# Altium footprint library DFN.PCBLIB: 1 footprints
Each footprint in its own frame and in the unit in brackets; x right, y up, seen from the top. Pads: shape width x height; smd on the part's side, far side on the other; paste and mask are expansions set on the pad; w line width, h text height; cw(c..) or ccw(c..) is an arc to the next point about the centre after c.
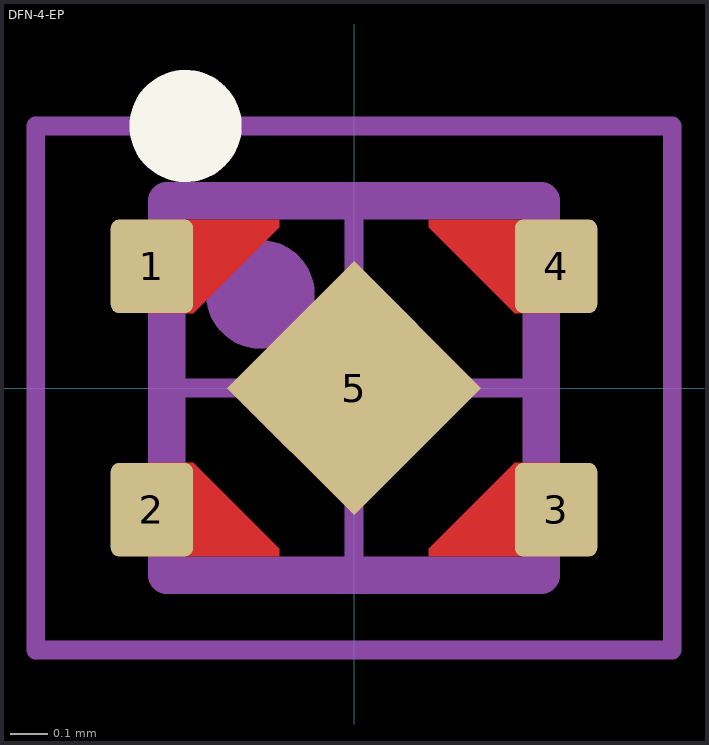
[diagram p0: the footprint, top view; thin cyan lines are the x and y axes]

## DFN-4-EP [mm] "0.65 mm pitch; 4 pin, 1.00 mm L X 1.00 mm W X 0.60 mm H body"
height 0.6
pads (5):
  rrect20% 0.22x0.25 smd: 1(-0.54,0.325) 2(-0.54,-0.325) 3(0.54,-0.325) 4(0.54,0.325)
  rect 0.48x0.48 smd rot 135: 5(0,0)
Top Layer:
  region: -0.545,-0.45 -0.545,-0.2 -0.43,-0.2 -0.2,-0.43 -0.2,-0.45
  region: -0.545,0.45 -0.545,0.2 -0.43,0.2 -0.2,0.43 -0.2,0.45
  region: 0.545,0.45 0.545,0.2 0.43,0.2 0.2,0.43 0.2,0.45
  region: 0.545,-0.45 0.545,-0.2 0.43,-0.2 0.2,-0.43 0.2,-0.45
Top Overlay:
  circle w0.15: c-0.45,0.7 r0.075
Top Assembly:
  circle w0.15: c-0.25,0.25 r0.07
  lines w0.1: -0.5,-0.5 -0.5,0.5 0.5,0.5 0.5,-0.5 -0.5,-0.5
Top Courtyard:
  lines w0.05: -0.85,-0.7 -0.85,0.7 0.85,0.7 0.85,-0.7 -0.85,-0.7
Top Designator:
  text ".Designator" at -0.5,1 h0.7
Top Component Center:
  lines w0.05: -0.5,0 0.5,0 ; 0,-0.5 0,0.5
3D body: height 0.6, standoff 0.5, extent -0.4,0.1 -0.1,0.4
3D body "DIODFN100X100X60-4.STEP": height 0.6, standoff 0, extent -0.5,-0.5 0.5,0.5